# EAGLE library part LM3524 (library PWM)
Regulating Pulse Width Modulator (dual out, 300kHz)
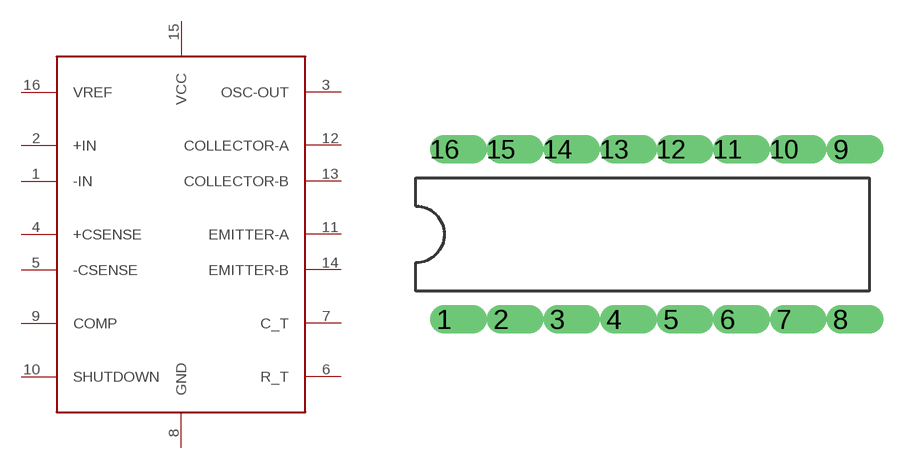
[diagram p1: symbol with the pads of DIL16-1; footprint DIL16-1]

Designator prefix -

## LM3524N  [DIL16-1]
1  -IN
2  +IN
3  OSC-OUT
4  +CSENSE
5  -CSENSE
6  R_T
7  C_T
8  GND
9  COMP
10  SHUTDOWN
11  EMITTER-A
12  COLLECTOR-A
13  COLLECTOR-B
14  EMITTER-B
15  VCC
16  VREF

## Footprint DIL16-1 (pad centres in mm)
drill 0.305 pad 1.27 offset: 1 -13.97,-2.54; 2 -11.43,-2.54; 3 -8.89,-2.54; 4 -6.35,-2.54; 5 -3.81,-2.54; 6 -1.27,-2.54; 7 1.27,-2.54; 8 3.81,-2.54; 9 3.81,5.08; 10 1.27,5.08; 11 -1.27,5.08; 12 -3.81,5.08; 13 -6.35,5.08; 14 -8.89,5.08; 15 -11.43,5.08; 16 -13.97,5.08